# Altium schematic symbol library G125-MH104M4-04AD000P.SchLib: 1 symbol
Pins are listed as number, name and electrical type; pins without a type are passive.

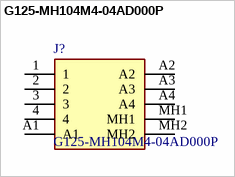
[diagram p0: symbol G125-MH104M4-04AD000P]

## G125-MH104M4-04AD000P
designator J?
Gecko-MT: 4+4 Pos Plug Right-Angle THT Connector Screw-Lok Board Mount; Manufacturer_Name: Harwin; Geometry.Height: 5.25mm; Manufacturer_Part_Number: G125-MH104M4-04AD000P; Mouser Part Number: 855-G125MH14M44AD00P; Mouser Price/Stock: https://www.mouser.co.uk/ProductDetail/Harwin/G125-MH104M4-04AD000P?qs=Y0Uzf4wQF3nR%252B22z%252BtmrYQ%3D%3D; Arrow Part Number: *; Arrow Price/Stock: *; Datasheet Link: https://content.harwin.com/m/91a65d72bc24bdea/original/DRG-03150-Technical-Drawing-Datasheet-G125-MH1XXM4-XXAD000P-pdf.pdf
footprint G125MH104M404AD000P
pins: 1, 2, 3, 4, A1, A2, A3, A4, MH1, MH2